# Altium footprint library EG1213.PcbLib: 1 footprints
Each footprint in its own frame and in the unit in brackets; x right, y up, seen from the top. Pads: shape width x height; smd on the part's side, far side on the other; paste and mask are expansions set on the pad; w line width, h text height; cw(c..) or ccw(c..) is an arc to the next point about the centre after c.
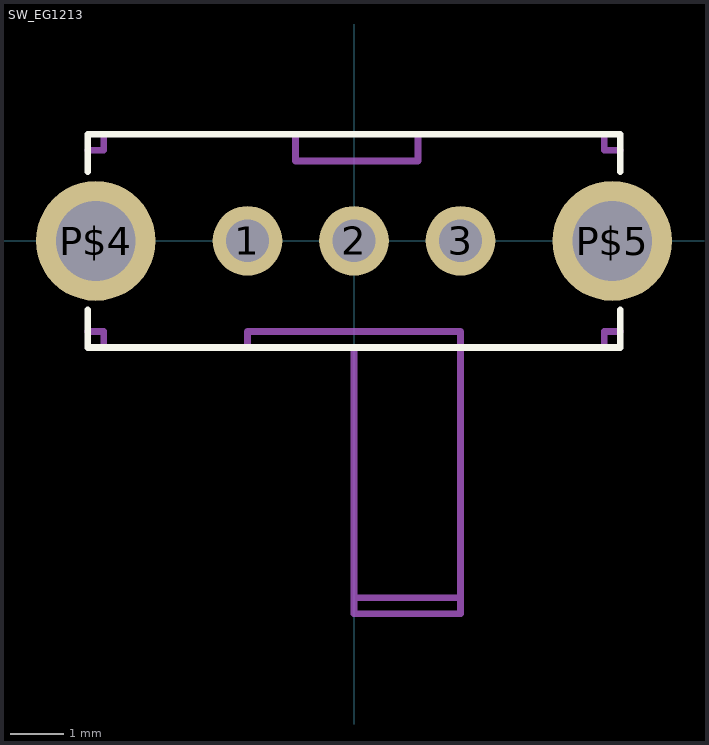
[diagram p0: the footprint, top view; thin cyan lines are the x and y axes]

## SW_EG1213 [mm]
pads (5):
  round 1.308 hole 0.8: 1(-2,0) 2(0,0) 3(2,0)
  round 2.25 hole 1.5: P$4(-4.85,0) P$5(4.85,0)
Top Overlay:
  lines w0.127: -5,-1.3 -5,-2 -2,-2 0,-2 2,-2 5,-2 5,-1.3 ; -5,1.3 -5,2 5,2 5,1.3
Mechanical 13:
  lines w0.127: -5,-1.7 -4.7,-1.7 -4.7,-2 ; -5,1.7 -4.7,1.7 -4.7,2 ; -2,-2 -2,-1.7 2,-1.7 2,-6.7 ; -1.1,2 -1.1,1.5 1.2,1.5 1.2,2 ; 0,-2 0,-6.7 ; 4.7,-2 4.7,-1.7 5,-1.7 ; 4.7,2 4.7,1.7 5,1.7 ; 0,-6.7 0,-7 2,-7 2,-6.7 ; 0,-6.7 2,-6.7
3D body "EG1213.stp": height 4.92, standoff -2.98, extent -5,-6.9 5,1.9